# EAGLE library part S6B-PH (library con-JST PH)
JST PH series header 2.00mm pitch disconnectable crimp style connectors, horizontal (side entry type), 6 pins
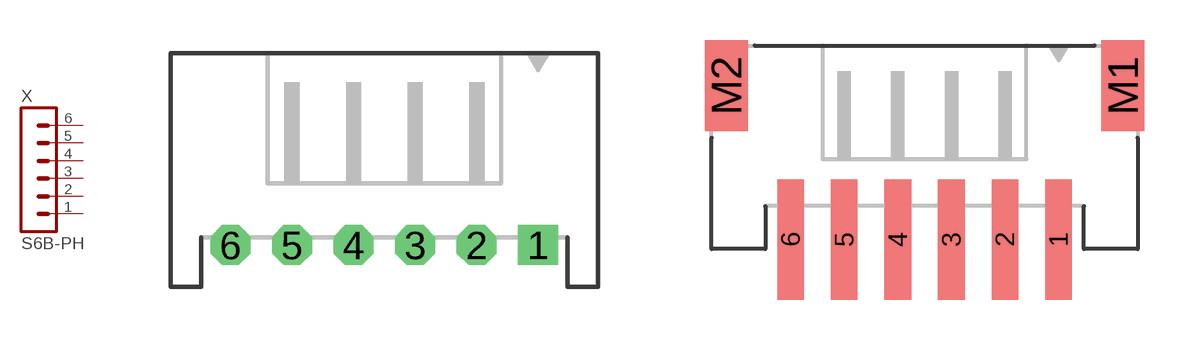
[diagram p11: symbol with the pads of S6B-PH-K-S; footprints S6B-PH-K-S, S6B-PH-SM4-TB]

Designator prefix X

## S6B-PH-K-S  [S6B-PH-K-S]
1  1  pas
2  2  pas
3  3  pas
4  4  pas
5  5  pas
6  6  pas

## S6B-PH-KL  [S6B-PH-K-S]
Pads as for S6B-PH-K-S

## S6B-PH-SM4-TB  [S6B-PH-SM4-TB]
Pads as for S6B-PH-K-S

## Footprint S6B-PH-K-S (pad centres in mm)
JST PH series header 2.00mm pitch disconnectable crimp style connectors, through-hole horizontal (side entry type), 6 pins
drill 0.7 pad 1.3 square: 1 5,0
drill 0.7 pad 1.3 octagon: 2 3,0; 3 1,0; 4 -1,0; 5 -3,0; 6 -5,0

## Footprint S6B-PH-SM4-TB (pad centres in mm)
JST PH series header 2.00mm pitch disconnectable crimp style connectors, SMT horizontal (side entry type), 6 pins
smd 1 x 4.5: 1 5,0; 2 3,0; 3 1,0; 4 -1,0; 5 -3,0; 6 -5,0
smd 1.6 x 3.4: M1 7.4,5.75; M2 -7.4,5.75